# EAGLE library part WIN820IO (library ic-WIZnet)
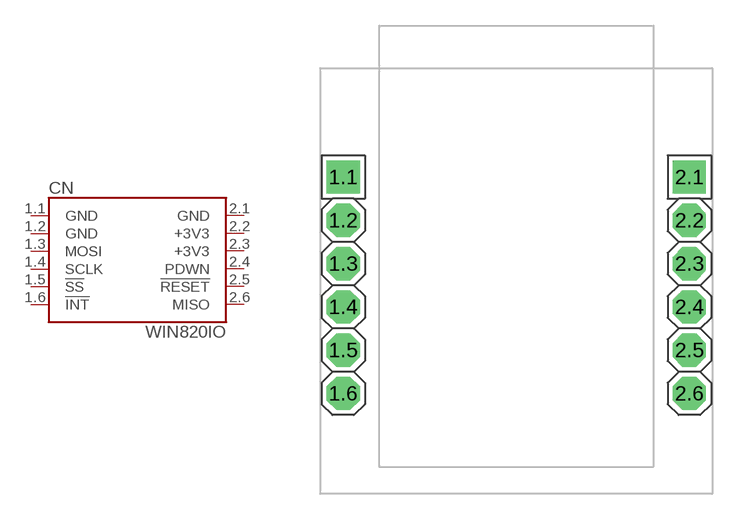
[diagram p1: symbol with the pads of WIZ820IO; footprint WIZ820IO]

Designator prefix CN

## WIN820IO  [WIZ820IO]
1.1  GND
1.2  GND
1.3  MOSI
1.4  SCLK
1.5  !SS
1.6  !INT
2.1  GND
2.2  +3V3
2.3  +3V3
2.4  PDWN
2.5  !RESET
2.6  MISO

## Footprint WIZ820IO (pad centres in mm)
drill 1.3 square: 1.1 -10.16,0; 2.1 10.16,0
drill 1.3 octagon: 1.2 -10.16,-2.54; 1.3 -10.16,-5.08; 1.4 -10.16,-7.62; 1.5 -10.16,-10.16; 1.6 -10.16,-12.7; 2.2 10.16,-2.54; 2.3 10.16,-5.08; 2.4 10.16,-7.62; 2.5 10.16,-10.16; 2.6 10.16,-12.7